# Altium schematic symbol library AQH3223.SchLib: 3 symbols
Pins are listed as number, name and electrical type; pins without a type are passive.

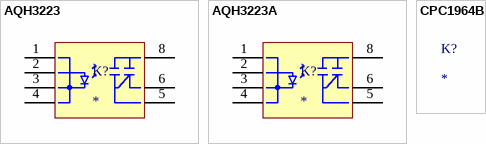
[diagram p0: symbols AQH3223 to CPC1964B]

## AQH3223
designator K?
SSR Thru-Hole, 1.2A 0~600V; Digi-Key Part Number: 255-2662-ND
pins: 1 -, 2 +, 3 -, 4 -, 5, 6, 8

## AQH3223A
designator K?
SSR SMD, 1.2A 0~600V; Digi-Key Part Number: 255-2663-ND
pins: 1 -, 2 +, 3 -, 4 -, 5, 6, 8

## CPC1964B
designator K?
SSR SMD, 1.5A 0~800V; Digi-Key Part Number: CLA413-ND